# Altium schematic symbol library TLV6004IPWR.SchLib: 1 symbol
Pins are listed as number, name and electrical type; pins without a type are passive.

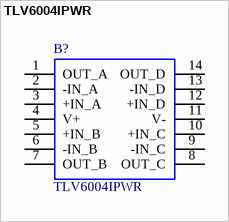
[diagram p0: symbol TLV6004IPWR]

## TLV6004IPWR
designator B?
Operational Amplifiers - Op Amps 1-MHz, Low-Power Operational Amplifier for Cost-Sensitive Systems 14-TSSOP -40 to 125; Manufacturer_Name: Texas Instruments; Geometry.Height: 1.2mm; TI store Part Number: TLV6004IPWR; Manufacturer_Part_Number: TLV6004IPWR; Datasheet Link: http://www.ti.com/lit/gpn/tlv6004
footprint SOP65P640X120-14N
pins: 1 OUT_A, 2 -IN_A, 3 +IN_A, 4 V+, 5 +IN_B, 6 -IN_B, 7 OUT_B, 8 OUT_C, 9 -IN_C, 10 +IN_C, 11 V-, 12 +IN_D, 13 -IN_D, 14 OUT_D